# Altium footprint library PCB - LEADLESS - QFN - WCH QFN-28 4X4MM.PCBLIB: 1 footprints
Each footprint in its own frame and in the unit in brackets; x right, y up, seen from the top. Pads: shape width x height; smd on the part's side, far side on the other; paste and mask are expansions set on the pad; w line width, h text height; cw(c..) or ccw(c..) is an arc to the next point about the centre after c.
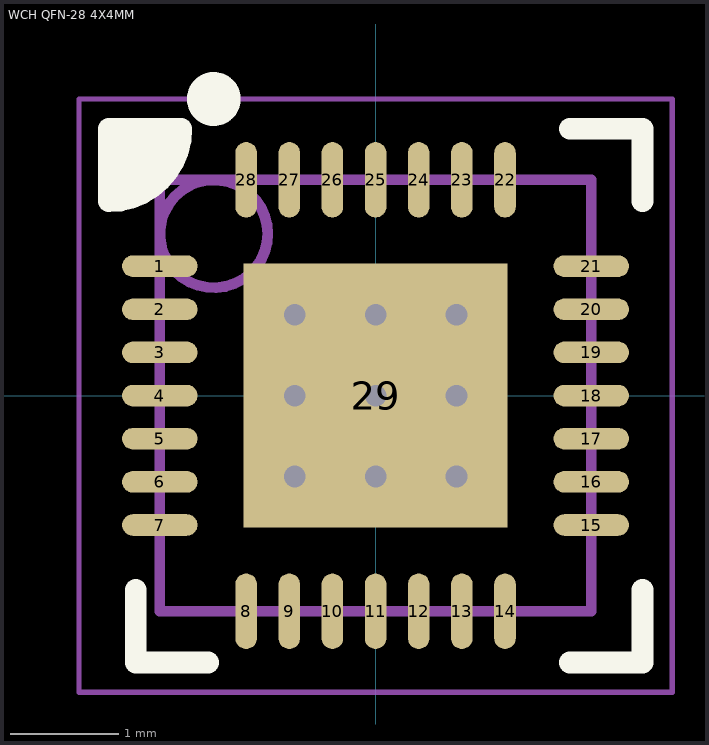
[diagram p0: the footprint, top view; thin cyan lines are the x and y axes]

## WCH QFN-28 4X4MM [mm] "QFN, 28-Leads, Body 4.00x4.00mm, Pitch 0.40mm, Thermal Pad 2.45x2.45mm, IPC Medium Density"
height 1
pads (29):
  oval 0.7x0.2 smd: 1(-2,1.2) 2(-2,0.8) 3(-2,0.4) 4(-2,0) 5(-2,-0.4) 6(-2,-0.8) 7(-2,-1.2) 15(2,-1.2) 16(2,-0.8) 17(2,-0.4) 18(2,0) 19(2,0.4) 20(2,0.8) 21(2,1.2)
  oval 0.2x0.7 smd: 8(-1.2,-2) 9(-0.8,-2) 10(-0.4,-2) 11(0,-2) 12(0.4,-2) 13(0.8,-2) 14(1.2,-2) 22(1.2,2) 23(0.8,2) 24(0.4,2) 25(0,2) 26(-0.4,2) 27(-0.8,2) 28(-1.2,2)
  rect 2.45x2.45 smd: 29(0,0)
via 0.75,-0.75 diameter 0.5 hole 0.2
via 0,-0.75 diameter 0.5 hole 0.2
via -0.75,-0.75 diameter 0.5 hole 0.2
via -0.75,0 diameter 0.5 hole 0.2
via 0.75,0 diameter 0.5 hole 0.2
via -0.75,0.75 diameter 0.5 hole 0.2
via 0,0 diameter 0.5 hole 0.2
via 0.75,0.75 diameter 0.5 hole 0.2
via 0,0.75 diameter 0.5 hole 0.2
Top Overlay:
  circle w0.25: c-1.5,2.75 r0.125
  region: -2.475,2.475 -1.8,2.475 -1.8,2.409 -1.826,2.278 -1.877,2.155 -1.951,2.045 -2.045,1.951 -2.155,1.877 -2.278,1.826 -2.409,1.8 -2.475,1.8
  lines w0.2: -2.225,-1.8 -2.225,-2.475 -1.55,-2.475 ; 1.8,-2.475 2.475,-2.475 2.475,-1.8 ; 1.8,2.475 2.475,2.475 2.475,1.8 ; -2.475,1.8 ccw(c-2.475,2.475) -1.8,2.475 -2.475,2.475 -2.475,1.8
Mechanical 13:
  circle w0.1: c-1.5,1.5 r0.5
  lines w0.1: -2,-2 2,-2 2,2 -2,2 -2,-2
Mechanical 15:
  lines w0.05: -2.75,-2.75 2.75,-2.75 2.75,2.75 -2.75,2.75 -2.75,-2.75
  lines w0.1: -0.5,0 0.5,0 ; 0,-0.5 0,0.5
3D body: height 1, standoff 0.01, extent -2,-2 2,2